# Altium schematic symbol library CAP,Alum,4.7uF,400VDC,Radial,Thru.Schlib: 1 symbol
Pins are listed as number, name and electrical type; pins without a type are passive.

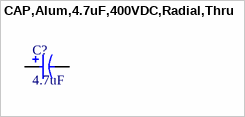
[diagram p0: symbol CAP,Alum,4.7uF,400VDC,Radial,Thru]

## CAP,Alum,4.7uF,400VDC,Radial,Thru
designator C?, comment 4.7uF
4.7µF 400V Aluminum Electrolytic Capacitors Radial, Can  1000 Hrs @ 105°C
pins: 1, 2